# EAGLE library part ZXBM5210 (library vfds)
H-Bridge motor driver.
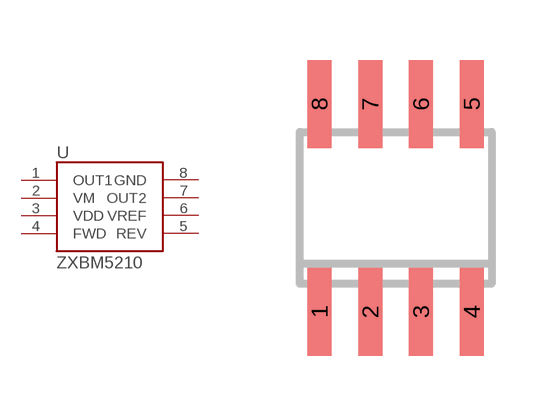
[diagram p1: symbol with the pads of SO8; footprint SO8]

Designator prefix -

## ZXBM5210 (PARTNAME: ZXBM5210)  [SO8]
1  OUT1
2  VM
3  VDD
4  FWD
5  REV
6  VREF
7  OUT2
8  GND

## Footprint SO8 (pad centres in mm)
SMALL OUTLINE INTEGRATED CIRCUIT
smd 0.6 x 2.2: 1 -1.905,-2.6; 2 -0.635,-2.6; 3 0.635,-2.6; 4 1.905,-2.6; 5 1.905,2.6; 6 0.635,2.6; 7 -0.635,2.6; 8 -1.905,2.6